# Altium footprint library FPV1006-150-R.PcbLib: 1 footprints
Each footprint in its own frame and in the unit in brackets; x right, y up, seen from the top. Pads: shape width x height; smd on the part's side, far side on the other; paste and mask are expansions set on the pad; w line width, h text height; cw(c..) or ccw(c..) is an arc to the next point about the centre after c.
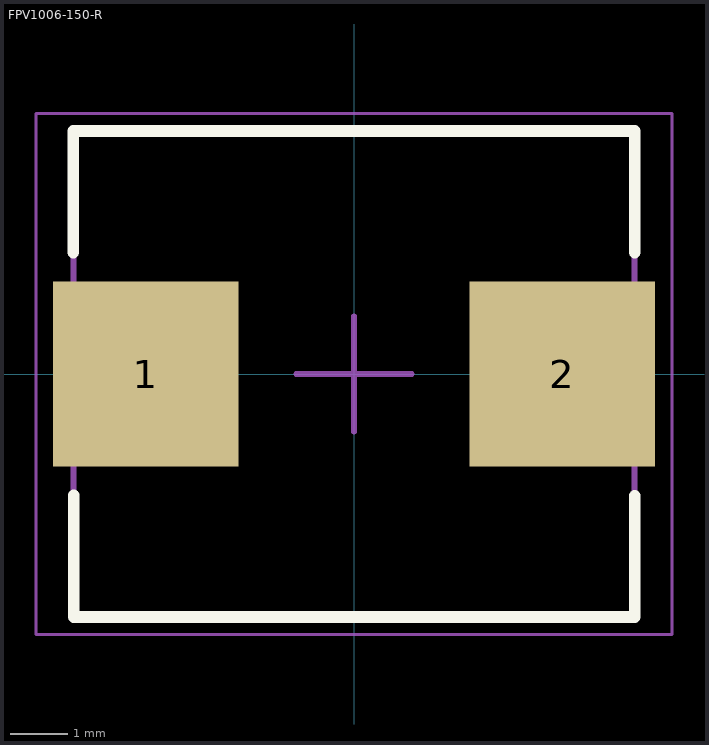
[diagram p0: the footprint, top view; thin cyan lines are the x and y axes]

## FPV1006-150-R [mm]
pads (2):
  rect 3.2x3.2 smd: 1(-3.6,0) 2(3.6,0)
Top Overlay:
  lines w0.2: -4.85,2.1 -4.85,4.2 4.85,4.2 4.85,2.1 ; -4.845,-2.095 -4.845,-4.2 4.855,-4.2 4.855,-2.105
Mechanical 1:
  lines w0.1: -4.85,-4.195 -4.85,4.2 4.85,4.2 4.85,-4.195 ; -4.845,-4.2 4.855,-4.2
  text ".Designator" at -3.125,-0.158 h0.65
Mechanical 2:
  lines w0.05: -5.5,-4.5 5.5,-4.5 5.5,4.5 -5.5,4.5 -5.5,-4.25 -5.5,-4.5
  lines w0.1: -1,0 1,0 ; 0,-1 0,1